# EAGLE library part 4VFX40FF1152 (library xilinx_spartan3_virtex4_and_5)
Xilinx FPGA
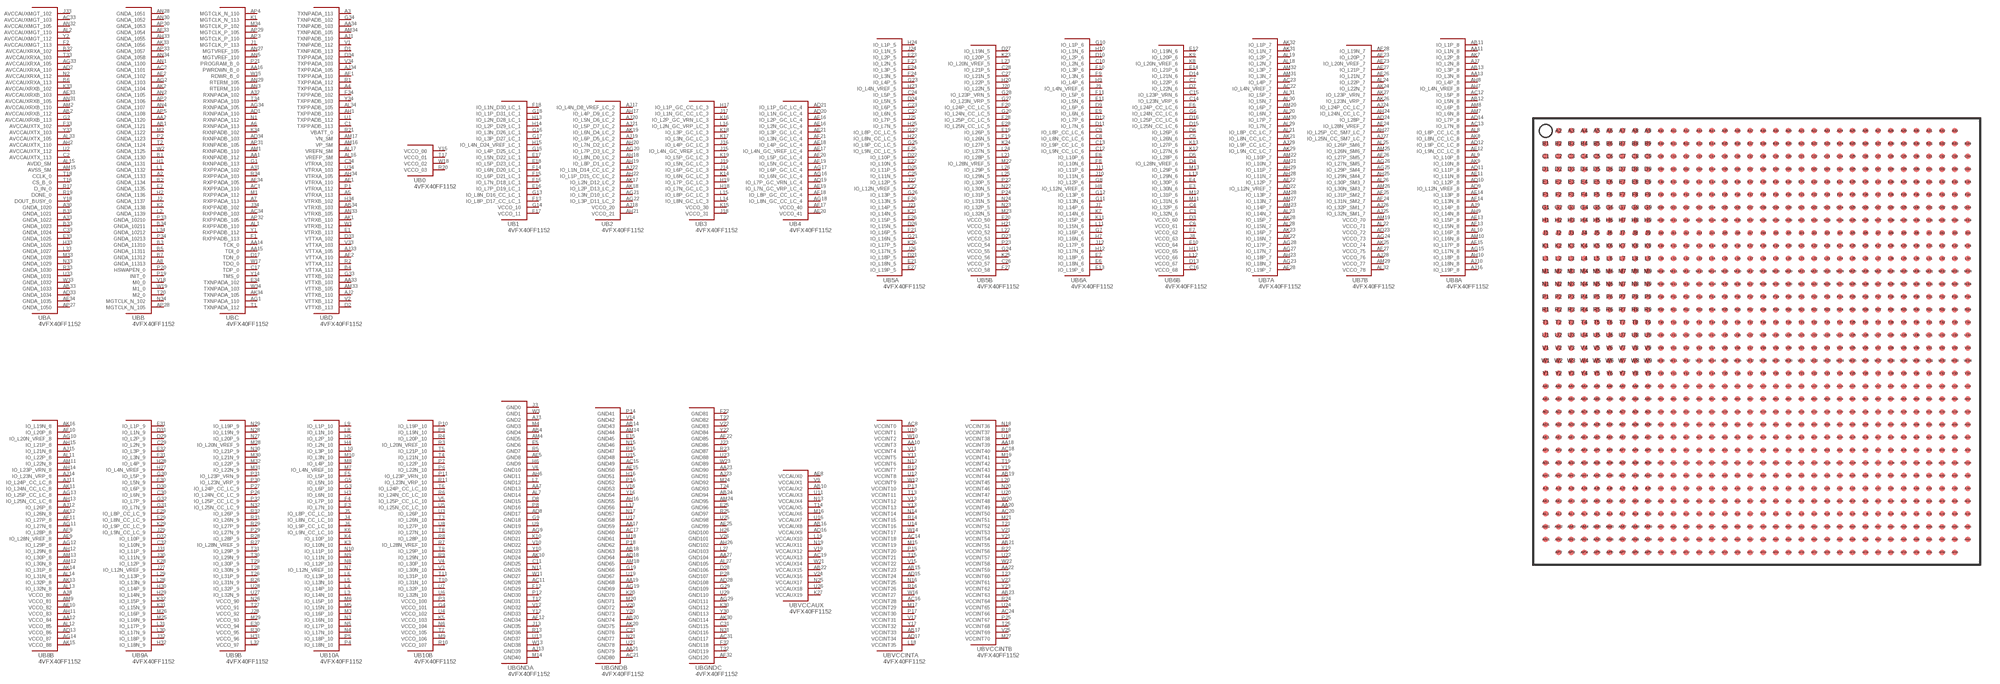
[diagram p65: symbol with the pads of FF1152; footprint FF1152]

Designator prefix U; gates BA=4VFX40FF1152_A BB=4VFX40FF1152_B BC=4VFX40FF1152_C BD=4VFX40FF1152_D B0=4VFX40FF1152_0 B1=4VFX40FF1152_1 B2=4VFX40FF1152_2 B3=4VFX40FF1152_3 B4=4VFX40FF1152_4 B5A=4VFX40FF1152_5A B5B=4VFX40FF1152_5B B6A=4VFX40FF1152_6A B6B=4VFX40FF1152_6B B7A=4VFX40FF1152_7A B7B=4VFX40FF1152_7B B8A=4VFX40FF1152_8A B8B=4VFX40FF1152_8B B9A=4VFX40FF1152_9A B9B=4VFX40FF1152_9B B10A=4VFX40FF1152_10A B10B=4VFX40FF1152_10B BGNDA=4VFX40FF1152_GNDA BGNDB=4VFX40FF1152_GNDB BGNDC=4VFX40FF1152_GNDC BVCCAUX=4VFX40FF1152_VCCAUX BVCCINTA=4VFX40FF1152_VCCINTA BVCCINTB=4VFX40FF1152_VCCINTB

## 4VFX40FF1152  [FF1152]
A2  BB:GNDA_1133
A3  BD:TXNPADA_113
A4  BD:TXPPADA_113
A5  BD:VTRXA_113
A6  BC:RXNPADA_113
A7  BC:RXPPADA_113
A8  BB:GNDA_11313
A30  BA:GNDA_1020
A31  BC:RXPPADA_102
A32  BC:RXNPADA_102
A33  BA:GNDA_1022
AA1  BC:RXNPADB_112
AA2  BB:GNDA_1120
AA7  BGNDA:GND13  pas
AA10  BVCCINTA:VCCINT3  pas
AA11  B8A:IO_L1N_8
AA12  B8B:VCCO_84  pas
AA13  B8A:IO_L3N_8
AA14  BC:TCK_0
AA15  BC:TDI_0
AA16  BC:PWRDWN_B_0
AA17  BGNDB:GND59  pas
AA18  BVCCINTB:VCCINT39  pas
AA19  BGNDB:GND68  pas
AA20  BVCCINTB:VCCINT49  pas
AA21  BGNDB:GND79  pas
AA22  BVCCINTB:VCCINT59  pas
AA23  BGNDC:GND90  pas
AA27  BGNDC:GND104  pas
AA33  BD:VTTXB_103
AA34  BD:TXNPADB_103
AB1  BB:GNDA_1121
AB2  BA:AVCCAUXRXB_112
AB4  BGNDA:GND4  pas
AB10  BVCCAUX:VCCAUX2  pas
AB11  B8A:IO_L1P_8
AB12  B8A:IO_L5N_8
AB13  B8A:IO_L3P_8
AB14  BGNDB:GND43  pas
AB15  BVCCINTA:VCCINT23  pas
AB16  BVCCAUX:VCCAUX8  pas
AB17  BVCCINTA:VCCINT33  pas
AB18  BGNDB:GND63  pas
AB19  BVCCINTB:VCCINT44  pas
AB20  BGNDB:GND74  pas
AB21  BVCCINTB:VCCINT55  pas
AB22  BVCCAUX:VCCAUX15  pas
AB23  BVCCINTB:VCCINT63  pas
AB24  BGNDC:GND94  pas
AB33  BA:GNDA_1033
AB34  BD:VTRXB_103
AC1  BC:RXPPADA_110
AC2  BB:GNDA_1101
AC8  BVCCINTA:VCCINT0  pas
AC11  BGNDA:GND28  pas
AC12  B8A:IO_L5P_8
AC13  B8A:IO_L7N_8
AC14  BVCCINTA:VCCINT18  pas
AC15  BGNDB:GND49  pas
AC16  BVCCINTA:VCCINT28  pas
AC17  BGNDB:GND60  pas
AC18  BVCCINTB:VCCINT40  pas
AC19  BVCCAUX:VCCAUX13  pas
AC20  BVCCINTB:VCCINT50  pas
AC21  BGNDB:GND80  pas
AC22  B7A:IO_L4N_VREF_7
AC23  B7A:IO_L4P_7
AC24  BVCCINTB:VCCINT66  pas
AC31  BGNDC:GND117  pas
AC33  BA:AVCCAUXMGT_103
AC34  BC:RXPPADB_103
AD1  BC:RXNPADA_110
AD2  BA:AVCCAUXRXA_110
AD8  BGNDA:GND17  pas
AD9  B8A:IO_L12N_VREF_8
AD10  B8A:IO_L12P_8
AD11  B8A:IO_L11P_8
AD12  B8A:IO_L9P_CC_LC_8
AD13  B8B:VCCO_86  pas
AD14  B8A:IO_L7P_8
AD15  BVCCINTA:VCCINT24  pas
AD16  BVCCAUX:VCCAUX9  pas
AD17  BVCCINTA:VCCINT34  pas
AD18  BGNDB:GND64  pas
AD19  B4:IO_L7P_GC_VRN_LC_4
AD20  B4:IO_L1N_GC_LC_4
AD21  B4:IO_L1P_GC_LC_4
AD22  B7A:IO_L12N_VREF_7
AD23  B7B:VCCO_72  pas
AD24  B7B:IO_L28P_7
AD28  BGNDC:GND108  pas
AD33  BA:GNDA_1034
AD34  BC:RXNPADB_103
AE1  BD:VTRXA_110
AE2  BB:GNDA_1102
AE5  BGNDA:GND8  pas
AE8  BVCCAUX:VCCAUX0  pas
AE9  B8B:IO_L28N_VREF_8
AE10  B8B:VCCO_82  pas
AE11  B8A:IO_L11N_8
AE12  B8A:IO_L9N_CC_LC_8
AE13  B8A:IO_L15P_8
AE14  B8A:IO_L13P_8
AE15  BGNDB:GND50  pas
AE16  B4:IO_L2N_GC_LC_4
AE17  B4:IO_L4N_GC_VREF_LC_4
AE18  B4:IO_L4P_GC_LC_4
AE19  B4:IO_L7N_GC_VRP_LC_4
AE20  B4:VCCO_41  pas
AE21  B4:IO_L3P_GC_LC_4
AE22  B7A:IO_L12P_7
AE23  B7B:IO_L20N_VREF_7
AE24  B7B:IO_L28N_VREF_7
AE25  BGNDC:GND99  pas
AE26  B7B:IO_L21N_7
AE27  B7B:IO_L21P_7
AE28  B7A:IO_L19P_7
AE33  BA:AVCCAUXRXB_103
AE34  BA:GNDA_1035
AF1  BD:TXPPADA_110
AF2  BD:VTTXA_110
AF9  B8B:IO_L28P_8
AF10  B8B:IO_L20P_8
AF11  B8B:IO_L27P_8
AF12  BGNDA:GND34  pas
AF13  B8A:IO_L15N_8
AF14  B8A:IO_L13N_8
AF15  B8A:IO_L17P_8
AF16  B4:IO_L2P_GC_LC_4
AF17  B4:VCCO_40  pas
AF18  B4:IO_L8P_GC_CC_LC_4
AF19  B4:IO_L5N_GC_LC_4
AF20  B4:IO_L5P_GC_LC_4
AF21  B4:IO_L3N_GC_LC_4
AF22  BGNDC:GND85  pas
AF23  B7B:IO_L20P_7
AF24  B7B:IO_L31N_SM2_7
AF25  B7B:IO_L31P_SM2_7
AF26  B7B:IO_L27P_SM5_7
AF27  B7B:VCCO_75  pas
AF28  B7B:IO_L19N_7
AF32  BGNDC:GND120  pas
AF33  BB:GNDA_1054
AF34  BC:RXPPADA_105
AG1  BC:TXNPADA_110
AG2  BB:GNDA_1103
AG9  BGNDA:GND20  pas
AG10  B8B:IO_L20N_VREF_8
AG11  B8B:IO_L27N_8
AG12  B8B:IO_L29P_8
AG13  B8B:IO_L25P_CC_LC_8
AG14  B8B:VCCO_87  pas
AG15  B8A:IO_L17N_8
AG16  B4:IO_L6N_GC_LC_4
AG17  B4:IO_L6P_GC_LC_4
AG18  B4:IO_L8N_GC_CC_LC_4
AG19  BGNDB:GND69  pas
AG20  B2:IO_L7P_D3_LC_2
AG21  B2:IO_L3N_D10_LC_2
AG22  B2:IO_L3P_D11_LC_2
AG23  B7A:IO_L18N_7
AG24  B7B:VCCO_73  pas
AG25  B7B:IO_L29P_SM4_7
AG26  B7B:IO_L27N_SM5_7
AG27  B7A:IO_L17N_7
AG28  B7A:IO_L17P_7
AG29  BGNDC:GND111  pas
AG33  BA:AVCCAUXRXA_105
AG34  BC:RXNPADA_105
AH1  BD:TXPPADB_110
AH2  BA:AVCCAUXTX_110
AH6  BGNDA:GND11  pas
AH7  B8A:IO_L4N_VREF_8
AH8  B8A:IO_L4P_8
AH9  B8A:IO_L14N_8
AH10  B8A:IO_L18P_8
AH11  B8B:VCCO_83  pas
AH12  B8B:IO_L29N_8
AH13  B8B:IO_L25N_CC_LC_8
AH14  B8B:IO_L23P_VRN_8
AH15  B8B:IO_L21P_8
AH16  BGNDB:GND55  pas
AH17  B2:IO_L4P_D9_LC_2
AH18  B2:IO_L8N_D0_LC_2
AH19  B2:IO_L8P_D1_LC_2
AH20  B2:IO_L7N_D2_LC_2
AH21  B2:VCCO_21  pas
AH22  B2:IO_L1P_D15_CC_LC_2
AH23  B7A:IO_L18P_7
AH24  B7B:IO_L24N_CC_LC_7
AH25  B7B:IO_L29N_SM4_7
AH26  BGNDC:GND102  pas
AH27  B7B:IO_L25P_CC_SM7_LC_7
AH28  B7A:IO_L11N_7
AH29  B7A:IO_L11P_7
AH33  BB:GNDA_1055
AH34  BD:VTRXA_105
AJ1  BD:TXNPADB_110
AJ2  BD:VTTXB_110
AJ3  BGNDA:GND2  pas
AJ7  B8A:IO_L2N_8
AJ8  B8B:VCCO_80  pas
AJ9  B8A:IO_L14P_8
AJ10  B8A:IO_L18N_8
AJ11  B8B:IO_L24P_CC_LC_8
AJ12  B8B:IO_L26P_8
AJ13  BGNDA:GND39  pas
AJ14  B8B:IO_L23N_VRP_8
AJ15  B8B:IO_L21N_8
AJ16  B8A:IO_L19P_8
AJ17  B2:IO_L4N_D8_VREF_LC_2
AJ18  B2:VCCO_20  pas
AJ19  B2:IO_L6P_D5_LC_2
AJ20  B2:IO_L5N_D6_LC_2
AJ21  B2:IO_L5P_D7_LC_2
AJ22  B2:IO_L1N_D14_CC_LC_2
AJ23  BGNDC:GND91  pas
AJ24  B7B:IO_L24P_CC_LC_7
AJ25  B7B:IO_L32N_SM1_7
AJ26  B7B:IO_L32P_SM1_7
AJ27  B7B:IO_L25N_CC_SM7_LC_7
AJ28  B7B:VCCO_76  pas
AJ29  B7A:IO_L9P_CC_LC_7
AJ33  BD:VTTXA_105
AJ34  BD:TXPPADA_105
AK1  BD:VTRXB_110
AK2  BB:GNDA_1104
AK7  B8A:IO_L2P_8
AK8  B8A:IO_L8N_CC_LC_8
AK9  B8A:IO_L10N_8
AK10  BGNDA:GND24  pas
AK11  B8B:IO_L24N_CC_LC_8
AK12  B8B:IO_L26N_8
AK13  B8B:IO_L32P_8
AK14  B8B:IO_L31P_8
AK15  B8B:VCCO_88  pas
AK16  B8B:IO_L19N_8
AK17  B2:IO_L2N_D12_LC_2
AK18  B2:IO_L2P_D13_LC_2
AK19  B2:IO_L6N_D4_LC_2
AK20  BGNDB:GND75  pas
AK21  B7A:IO_L8N_CC_LC_7
AK22  B7A:IO_L16N_7
AK23  B7A:IO_L16P_7
AK24  B7B:IO_L22N_7
AK25  B7B:VCCO_74  pas
AK26  B7B:IO_L23N_VRP_7
AK27  B7B:IO_L23P_VRN_7
AK28  B7A:IO_L15P_7
AK29  B7A:IO_L9N_CC_LC_7
AK30  BGNDC:GND114  pas
AK31  B7A:IO_L1N_7
AK32  B7A:IO_L1P_7
AK33  BB:GNDA_1056
AK34  BC:TXNPADA_105
AL1  BC:RXPPADB_110
AL2  BA:AVCCAUXMGT_110
AL7  BGNDA:GND14  pas
AL8  B8A:IO_L8P_CC_LC_8
AL9  B8A:IO_L10P_8
AL10  B8A:IO_L16P_8
AL11  B8B:IO_L22P_8
AL12  B8B:VCCO_85  pas
AL13  B8B:IO_L32N_8
AL14  B8B:IO_L31N_8
AL15  BA:AVDD_SM
AL16  BD:VREFP_SM
AL17  BD:VREFN_SM
AL18  B7A:IO_L2N_7
AL19  B7A:IO_L2P_7
AL20  B7A:IO_L6N_7
AL21  B7A:IO_L8P_CC_LC_7
AL22  B7B:VCCO_71  pas
AL23  B7A:IO_L14N_7
AL24  B7B:IO_L22P_7
AL25  B7B:IO_L26P_SM6_7
AL26  B7B:IO_L30P_SM3_7
AL27  BGNDC:GND105  pas
AL28  B7A:IO_L15N_7
AL29  B7A:IO_L7N_7
AL30  B7A:IO_L5N_7
AL31  B7A:IO_L5P_7
AL32  B7B:VCCO_78  pas
AL33  BA:AVCCAUXTX_105
AL34  BD:TXPPADB_105
AM1  BC:RXNPADB_110
AM2  BA:AVCCAUXRXB_110
AM4  BGNDA:GND5  pas
AM7  B8A:IO_L6N_8
AM8  B8A:IO_L6P_8
AM9  B8B:VCCO_81  pas
AM10  B8A:IO_L16N_8
AM11  B8B:IO_L22N_8
AM12  B8B:IO_L30N_8
AM13  B8B:IO_L30P_8
AM14  BGNDB:GND44  pas
AM15  BA:AVSS_SM
AM16  BD:VP_SM
AM17  BD:VN_SM
AM18  BGNDB:GND65  pas
AM19  B7B:VCCO_70  pas
AM20  B7A:IO_L6P_7
AM21  B7A:IO_L10N_7
AM22  B7A:IO_L10P_7
AM23  B7A:IO_L14P_7
AM24  BGNDC:GND95  pas
AM25  B7B:IO_L26N_SM6_7
AM26  B7B:IO_L30N_SM3_7
AM27  B7A:IO_L13N_7
AM28  B7A:IO_L13P_7
AM29  B7B:VCCO_77  pas
AM30  B7A:IO_L7P_7
AM31  B7A:IO_L3N_7
AM32  B7A:IO_L3P_7
AM33  BD:VTTXB_105
AM34  BD:TXNPADB_105
AN1  BB:GNDA_1100
AN2  BB:GNDA_1105
AN3  BC:RTERM_110
AN4  BB:GNDA_1107
AN5  BC:MGTVREF_110
AN27  BC:MGTVREF_105
AN28  BB:GNDA_1051
AN29  BC:RTERM_105
AN30  BB:GNDA_1052
AN31  BA:AVCCAUXRXB_105
AN32  BA:AVCCAUXMGT_105
AN33  BD:VTRXB_105
AN34  BB:GNDA_1058
AP2  BB:GNDA_1106
AP3  BC:MGTCLK_P_110
AP4  BC:MGTCLK_N_110
AP5  BB:GNDA_1108
AP27  BA:GNDA_1050
AP28  BB:MGTCLK_N_105
AP29  BC:MGTCLK_P_105
AP30  BB:GNDA_1053
AP31  BC:RXNPADB_105
AP32  BC:RXPPADB_105
AP33  BB:GNDA_1057
B1  BB:GNDA_1130
B2  BB:GNDA_1134
B3  BB:GNDA_11310
B4  BD:VTTXA_113
B5  BB:GNDA_11311
B6  BA:AVCCAUXRXA_113
B7  BB:GNDA_11312
B31  BA:GNDA_1021
B32  BA:AVCCAUXRXA_102
B33  BA:GNDA_1023
B34  BB:GNDA_10211
C1  BD:TXPPADB_113
C2  BA:AVCCAUXTX_113
C3  B6B:IO_L32N_6
C4  B6B:IO_L32P_6
C5  B6B:IO_L26N_6
C6  B6B:VCCO_61  pas
C7  B6B:IO_L22P_6
C8  B6A:IO_L8N_CC_LC_6
C9  B6A:IO_L8P_CC_LC_6
C10  B6A:IO_L2N_6
C11  BGNDA:GND25  pas
C12  B6A:IO_L9N_CC_LC_6
C13  B6A:IO_L9P_CC_LC_6
C14  B6B:IO_L23N_VRP_6
C15  B6B:IO_L23P_VRN_6
C16  B6B:VCCO_68  pas
C17  BC:TDP_0
C21  BGNDB:GND76  pas
C22  B5A:IO_L6N_5
C23  B5A:IO_L6P_5
C24  B5A:IO_L5P_5
C25  B5A:IO_L11N_5
C26  B5B:VCCO_57  pas
C27  B5B:IO_L21N_5
C28  B5B:IO_L21P_5
C29  B9A:IO_L2N_9
C30  B9A:IO_L6N_9
C31  BGNDC:GND115  pas
C32  B9A:IO_L10N_9
C33  BA:GNDA_1024
C34  BD:VTRXA_102
D1  BD:TXNPADB_113
D2  BD:VTTXB_113
D3  B6B:VCCO_60  pas
D4  B6B:IO_L28N_VREF_6
D5  B6B:IO_L28P_6
D6  B6B:IO_L26P_6
D7  B6B:IO_L22N_6
D8  BGNDA:GND15  pas
D9  B6A:IO_L6P_6
D10  B6A:IO_L2P_6
D11  B6A:IO_L7N_6
D12  B6A:IO_L7P_6
D13  B6B:VCCO_67  pas
D14  B6B:IO_L21N_6
D15  B6B:IO_L25N_CC_LC_6
D16  B6B:IO_L25P_CC_LC_6
D17  BC:TDN_0
D21  B5A:IO_L18P_5
D22  B5A:IO_L10P_5
D23  B5B:VCCO_53  pas
D24  B5A:IO_L5N_5
D25  B5A:IO_L11P_5
D26  B5A:IO_L15N_5
D27  B5B:IO_L19N_5
D28  BGNDC:GND106  pas
D29  B9A:IO_L2P_9
D30  B9A:IO_L6P_9
D31  B9A:IO_L1N_9
D32  B9A:IO_L10P_9
D33  BD:VTTXA_102
D34  BD:TXPPADA_102
E1  BD:VTRXB_113
E2  BB:GNDA_1135
E3  B6B:IO_L30N_6
E4  B6B:IO_L30P_6
E5  BGNDA:GND6  pas
E6  B6A:IO_L18N_6
E7  B6A:IO_L18P_6
E8  B6A:IO_L10P_6
E9  B6A:IO_L6N_6
E10  B6B:VCCO_64  pas
E11  B6A:IO_L5N_6
E12  B6B:IO_L19N_6
E13  B6A:IO_L19P_6
E14  B6B:IO_L21P_6
E15  BGNDB:GND45  pas
E16  B1:IO_L7P_D19_LC_1
E17  B1:IO_L5N_D22_LC_1
E18  B1:IO_L5P_D23_LC_1
E19  B5B:IO_L26P_5
E20  B5B:VCCO_50  pas
E21  B5A:IO_L18N_5
E22  B5A:IO_L10N_5
E23  B5A:IO_L2P_5
E24  B5A:IO_L3P_5
E25  BGNDC:GND96  pas
E26  B5A:IO_L15P_5
E27  B5A:IO_L19P_5
E28  B5B:IO_L25N_CC_LC_5
E29  B9A:IO_L8N_CC_LC_9
E30  B9B:VCCO_94  pas
E31  B9A:IO_L1P_9
E32  B9A:IO_L3P_9
E33  BA:GNDA_1025
E34  BC:TXNPADA_102
F1  BC:RXPPADB_113
F2  BA:AVCCAUXMGT_113
F3  B10A:IO_L7N_10
F4  B10A:IO_L7P_10
F5  B10A:IO_L5P_10
F6  B6B:IO_L24P_CC_LC_6
F7  B6B:VCCO_62  pas
F8  B6A:IO_L10N_6
F9  B6A:IO_L3N_6
F10  B6A:IO_L3P_6
F11  B6A:IO_L5P_6
F12  BGNDA:GND29  pas
F13  B1:IO_L8P_D17_CC_LC_1
F14  B1:IO_L6N_D20_LC_1
F15  B1:IO_L6P_D21_LC_1
F16  B1:IO_L7N_D18_LC_1
F17  B1:VCCO_11  pas
F18  B1:IO_L1N_D30_LC_1
F19  B5B:IO_L26N_5
F20  B5B:IO_L24P_CC_LC_5
F21  B5A:IO_L16P_5
F22  BGNDC:GND81  pas
F23  B5A:IO_L2N_5
F24  B5A:IO_L3N_5
F25  B5A:IO_L9N_CC_LC_5
F26  B5A:IO_L13N_5
F27  B5B:VCCO_58  pas
F28  B5B:IO_L25P_CC_LC_5
F29  B9A:IO_L8P_CC_LC_9
F30  B9A:IO_L5N_9
F31  B9A:IO_L3N_9
F32  BGNDC:GND118  pas
F33  BA:AVCCAUXTX_102
F34  BD:TXPPADB_102
G1  BC:RXNPADB_113
G2  BA:AVCCAUXRXB_113
G3  B10A:IO_L6P_10
G4  B10B:VCCO_101  pas
G5  B10A:IO_L5N_10
G6  B6B:IO_L24N_CC_LC_6
G7  B6A:IO_L16P_6
G8  B6A:IO_L12P_6
G9  BGNDA:GND18  pas
G10  B6A:IO_L1P_6
G11  B6A:IO_L13N_6
G12  B6A:IO_L13P_6
G13  B1:IO_L8N_D16_CC_LC_1
G14  B1:VCCO_10  pas
G15  B1:IO_L4P_D25_LC_1
G16  B1:IO_L3N_D26_LC_1
G17  B1:IO_L3P_D27_LC_1
G18  B1:IO_L1P_D31_LC_1
G19  BGNDB:GND66  pas
G20  B5B:IO_L24N_CC_LC_5
G21  B5A:IO_L16N_5
G22  B5A:IO_L8P_CC_LC_5
G23  B5A:IO_L4P_5
G24  B5B:VCCO_55  pas
G25  B5A:IO_L9P_CC_LC_5
G26  B5A:IO_L13P_5
G27  B5B:IO_L23N_VRP_5
G28  B5B:IO_L23P_VRN_5
G29  BGNDC:GND109  pas
G30  B9A:IO_L5P_9
G31  B9A:IO_L7N_9
G32  B9A:IO_L7P_9
G33  BD:VTTXB_102
G34  BD:TXNPADB_102
H1  BB:GNDA_1131
H2  BB:GNDA_1136
H3  B10A:IO_L6N_10
H4  B10A:IO_L2N_10
H5  B10A:IO_L2P_10
H6  BGNDA:GND9  pas
H7  B6A:IO_L16N_6
H8  B6A:IO_L12N_VREF_6
H9  B6A:IO_L4P_6
H10  B6A:IO_L1N_6
H11  B6B:VCCO_65  pas
H12  B6A:IO_L17N_6
H13  B1:IO_L2N_D28_LC_1
H14  B1:IO_L2P_D29_LC_1
H15  B1:IO_L4N_D24_VREF_LC_1
H16  BGNDB:GND51  pas
H17  B3:IO_L1P_GC_CC_LC_3
H18  B3:IO_L7N_GC_LC_3
H19  B3:IO_L7P_GC_LC_3
H20  B5B:IO_L22P_5
H21  B5B:VCCO_51  pas
H22  B5A:IO_L8N_CC_LC_5
H23  B5A:IO_L4N_VREF_5
H24  B5A:IO_L1P_5
H25  B5A:IO_L7N_5
H26  BGNDC:GND100  pas
H27  B9A:IO_L4N_VREF_9
H28  B9A:IO_L4P_9
H29  B9A:IO_L14N_9
H30  B9A:IO_L14P_9
H31  B9B:VCCO_96  pas
H32  B9A:IO_L18N_9
H33  BA:GNDA_1026
H34  BD:VTRXB_102
J1  BC:MGTCLK_P_113
J2  BB:GNDA_1137
J3  BGNDA:GND0  pas
J4  B10A:IO_L8N_CC_LC_10
J5  B10A:IO_L8P_CC_LC_10
J6  B10A:IO_L9P_CC_LC_10
J7  B6A:IO_L14P_6
J8  B6B:VCCO_63  pas
J9  B6A:IO_L4N_VREF_6
J10  B6A:IO_L11N_6
J11  B6A:IO_L11P_6
J12  B6A:IO_L17P_6
J13  BGNDA:GND35  pas
J14  B3:IO_L6P_GC_LC_3
J15  B3:IO_L4N_GC_VREF_LC_3
J16  B3:IO_L4P_GC_LC_3
J17  B3:IO_L1N_GC_CC_LC_3
J18  B3:VCCO_31  pas
J19  B3:IO_L5N_GC_LC_3
J20  B5B:IO_L22N_5
J21  B5A:IO_L14P_5
J22  B5A:IO_L12P_5
J23  BGNDC:GND86  pas
J24  B5A:IO_L1N_5
J25  B5A:IO_L7P_5
J26  B5A:IO_L17N_5
J27  B9A:IO_L12N_VREF_9
J28  B9B:VCCO_92  pas
J29  B9A:IO_L9N_CC_LC_9
J30  B9A:IO_L11N_9
J31  B9A:IO_L11P_9
J32  B9A:IO_L18P_9
J33  BA:AVCCAUXMGT_102
J34  BC:RXPPADB_102
K1  BC:MGTCLK_N_113
K2  BB:GNDA_1138
K3  B10A:IO_L10N_10
K4  B10A:IO_L10P_10
K5  B10B:VCCO_103  pas
K6  B10A:IO_L9N_CC_LC_10
K7  B6A:IO_L14N_6
K8  B6B:IO_L20N_VREF_6
K9  B6B:IO_L20P_6
K10  BGNDA:GND21  pas
K11  B6A:IO_L15P_6
K12  B6B:IO_L27N_6
K13  B6B:IO_L27P_6
K14  B3:IO_L6N_GC_LC_3
K15  B3:VCCO_30  pas
K16  B3:IO_L2P_GC_VRN_LC_3
K17  B3:IO_L3N_GC_LC_3
K18  B3:IO_L3P_GC_LC_3
K19  B3:IO_L5P_GC_LC_3
K20  BGNDB:GND70  pas
K21  B5A:IO_L14N_5
K22  B5A:IO_L12N_VREF_5
K23  B5B:IO_L20P_5
K24  B5B:IO_L27P_5
K25  B5B:VCCO_56  pas
K26  B5A:IO_L17P_5
K27  BVCCAUX:VCCAUX19  pas
K28  B9A:IO_L12P_9
K29  B9A:IO_L9P_CC_LC_9
K30  BGNDC:GND112  pas
K31  B9A:IO_L15N_9
K32  B9A:IO_L15P_9
K33  BA:AVCCAUXRXB_102
K34  BC:RXNPADB_102
L1  BB:GNDA_1132
L2  BB:GNDA_1139
L3  B10A:IO_L14N_10
L4  B10A:IO_L14P_10
L5  B10A:IO_L13N_10
L6  B10A:IO_L13P_10
L7  BGNDA:GND12  pas
L8  B10A:IO_L1N_10
L9  B10A:IO_L1P_10
L10  B10A:IO_L3P_10
L11  B6A:IO_L15N_6
L12  B6B:VCCO_66  pas
L13  B6B:IO_L29N_6
L14  B3:IO_L8N_GC_LC_3
L15  B3:IO_L8P_GC_LC_3
L16  B3:IO_L2N_GC_VRP_LC_3
L17  BGNDB:GND56  pas
L18  BVCCINTA:VCCINT35  pas
L19  BVCCAUX:VCCAUX10  pas
L20  BVCCINTB:VCCINT45  pas
L21  B5B:IO_L28P_5
L22  B5B:VCCO_52  pas
L23  B5B:IO_L20N_VREF_5
L24  B5B:IO_L27N_5
L25  B5B:IO_L29N_5
L26  B5B:IO_L29P_5
L27  BGNDC:GND103  pas
L28  B9A:IO_L13N_9
L29  B9A:IO_L13P_9
L30  B9A:IO_L17N_9
L31  B9A:IO_L17P_9
L32  B9B:VCCO_97  pas
L33  BA:GNDA_1027
L34  BB:GNDA_10212
M1  BC:RXPPADA_112
M2  BB:GNDA_1122
M3  B10A:IO_L16P_10
M4  BGNDA:GND3  pas
M5  B10A:IO_L15N_10
M6  B10A:IO_L15P_10
M7  B10A:IO_L4N_VREF_10
M8  B10A:IO_L4P_10
M9  B10B:VCCO_106  pas
M10  B10A:IO_L3N_10
M11  B6B:IO_L31N_6
M12  B6B:IO_L31P_6
M13  B6B:IO_L29P_6
M14  BGNDA:GND40  pas
M15  BVCCINTA:VCCINT19  pas
M16  BVCCAUX:VCCAUX6  pas
M17  BVCCINTA:VCCINT29  pas
M18  BGNDB:GND61  pas
M19  BVCCINTB:VCCINT41  pas
M20  BGNDB:GND71  pas
M21  BVCCINTB:VCCINT51  pas
M22  B5B:IO_L28N_VREF_5
M23  B5B:IO_L32N_5
M24  BGNDC:GND92  pas
M25  B9A:IO_L16N_9
M26  B9A:IO_L16P_9
M27  BVCCINTB:VCCINT70  pas
M28  B9B:IO_L20N_VREF_9
M29  B9B:VCCO_93  pas
M30  B9B:IO_L21N_9
M31  B9B:IO_L22N_9
M32  B9B:IO_L22P_9
M33  BA:GNDA_1028
M34  BC:MGTCLK_P_102
N1  BC:RXNPADA_112
N2  BA:AVCCAUXRXA_112
N3  B10A:IO_L16N_10
N4  B10A:IO_L17N_10
N5  B10A:IO_L17P_10
N6  B10B:VCCO_104  pas
N7  B10A:IO_L12N_VREF_10
N8  B10A:IO_L12P_10
N9  B10A:IO_L11N_10
N10  B10A:IO_L11P_10
N11  BGNDA:GND26  pas
N12  BVCCINTA:VCCINT6  pas
N13  BVCCAUX:VCCAUX4  pas
N14  BVCCINTA:VCCINT14  pas
N15  BGNDB:GND46  pas
N16  BVCCINTA:VCCINT25  pas
N17  BGNDB:GND57  pas
N18  BVCCINTB:VCCINT36  pas
N19  BVCCAUX:VCCAUX11  pas
N20  BVCCINTB:VCCINT46  pas
N21  BGNDB:GND77  pas
N22  B5B:IO_L30N_5
N23  B5B:IO_L32P_5
N24  B5B:IO_L31N_5
N25  BVCCAUX:VCCAUX17  pas
N26  B9B:VCCO_90  pas
N27  B9B:IO_L20P_9
N28  B9B:IO_L19N_9
N29  B9B:IO_L19P_9
N30  B9B:IO_L21P_9
N31  BGNDC:GND116  pas
N32  B9B:IO_L25N_CC_LC_9
N33  BA:GNDA_1029
N34  BB:MGTCLK_N_102
P1  BD:VTRXA_112
P2  BB:GNDA_1123
P3  B10B:VCCO_100  pas
P4  B10A:IO_L18N_10
P5  B10A:IO_L18P_10
P6  B10B:IO_L22N_10
P7  B10B:IO_L22P_10
P8  BGNDA:GND16  pas
P9  B10B:IO_L19N_10
P10  B10B:IO_L19P_10
P11  B10B:IO_L23P_VRN_10
P12  BGNDA:GND30  pas
P13  BVCCINTA:VCCINT10  pas
P14  BGNDB:GND41  pas
P15  BVCCINTA:VCCINT20  pas
P16  BGNDB:GND52  pas
P17  BVCCINTA:VCCINT30  pas
P18  BGNDB:GND62  pas
P19  BB:INIT_0
P20  BB:HSWAPEN_0
P21  BC:PROGRAM_B_0
P22  B5B:IO_L30P_5
P23  B5B:VCCO_54  pas
P24  B5B:IO_L31P_5
P25  BVCCINTB:VCCINT67  pas
P26  B9B:IO_L24N_CC_LC_9
P27  B9B:IO_L24P_CC_LC_9
P28  BGNDC:GND107  pas
P29  B9B:IO_L27N_9
P30  B9B:IO_L23N_VRP_9
P31  B9B:IO_L23P_VRN_9
P32  B9B:IO_L25P_CC_LC_9
P33  BB:GNDA_10210
P34  BB:GNDA_10213
R1  BD:TXPPADA_112
R2  BD:VTTXA_112
R3  B10B:IO_L20N_VREF_10
R4  B10B:IO_L20P_10
R5  BGNDA:GND7  pas
R6  B10B:IO_L24N_CC_LC_10
R7  B10B:IO_L28N_VREF_10
R8  B10B:IO_L28P_10
R9  B10B:IO_L29N_10
R10  B10B:VCCO_107  pas
R11  B10B:IO_L23N_VRP_10
R12  BVCCINTA:VCCINT7  pas
R13  BGNDA:GND36  pas
R14  BVCCINTA:VCCINT15  pas
R15  BGNDB:GND47  pas
R16  BVCCINTA:VCCINT26  pas
R17  BA:D_IN_0
R18  BVCCINTB:VCCINT37  pas
R19  BA:DONE_0
R20  B0:VCCO_03  pas
R21  BD:VBATT_0
R22  BVCCINTB:VCCINT56  pas
R23  BGNDC:GND87  pas
R24  BVCCINTB:VCCINT64  pas
R25  BGNDC:GND97  pas
R26  B9B:IO_L31N_9
R27  B9B:IO_L28N_VREF_9
R28  B9B:IO_L28P_9
R29  B9B:IO_L27P_9
R30  B9B:VCCO_95  pas
R31  B9B:IO_L26N_9
R32  B9B:IO_L26P_9
R33  BA:GNDA_1030
R34  BC:RXPPADA_103
T1  BC:TXNPADA_112
T2  BB:GNDA_1124
T3  B10B:IO_L26N_10
T4  B10B:IO_L21N_10
T5  B10B:IO_L21P_10
T6  B10B:IO_L24P_CC_LC_10
T7  B10B:VCCO_105  pas
T8  B10B:IO_L27N_10
T9  B10B:IO_L29P_10
T10  B10B:IO_L31N_10
T11  B10B:IO_L31P_10
T12  BGNDA:GND31  pas
T13  BVCCINTA:VCCINT11  pas
T14  BVCCAUX:VCCAUX5  pas
T15  BVCCINTA:VCCINT21  pas
T16  BA:CS_B_0
T17  B0:VCCO_01  pas
T18  BA:CCLK_0
T19  BVCCINTB:VCCINT42  pas
T20  BB:M2_0
T21  BVCCINTB:VCCINT52  pas
T22  BGNDC:GND82  pas
T23  BVCCINTB:VCCINT60  pas
T24  BGNDC:GND93  pas
T25  BVCCINTB:VCCINT68  pas
T26  B9B:IO_L31P_9
T27  B9B:VCCO_91  pas
T28  B9B:IO_L30N_9
T29  B9B:IO_L30P_9
T30  B9B:IO_L29N_9
T31  B9B:IO_L29P_9
T32  BGNDC:GND119  pas
T33  BA:AVCCAUXRXA_103
T34  BC:RXNPADA_103
U1  BD:TXPPADB_112
U2  BA:AVCCAUXTX_112
U3  B10B:IO_L26P_10
U4  B10B:VCCO_102  pas
U5  B10B:IO_L25N_CC_LC_10
U6  B10B:IO_L32N_10
U7  B10B:IO_L32P_10
U8  B10B:IO_L27P_10
U9  BGNDA:GND19  pas
U10  BVCCINTA:VCCINT1  pas
U11  BVCCAUX:VCCAUX3  pas
U12  BVCCINTA:VCCINT8  pas
U13  BGNDA:GND37  pas
U14  BVCCINTA:VCCINT16  pas
U15  BGNDB:GND48  pas
U16  BVCCAUX:VCCAUX7  pas
U17  BGNDB:GND58  pas
U18  BVCCINTB:VCCINT38  pas
U19  BGNDB:GND67  pas
U20  BVCCINTB:VCCINT47  pas
U21  BGNDB:GND78  pas
U22  BVCCINTB:VCCINT57  pas
U23  BGNDC:GND88  pas
U24  BVCCINTB:VCCINT65  pas
U25  BGNDC:GND98  pas
U26  BVCCAUX:VCCAUX18  pas
U27  B9B:IO_L32N_9
U28  B9B:IO_L32P_9
U29  BGNDC:GND110  pas
U33  BA:GNDA_1031
U34  BD:VTRXA_103
V1  BD:TXNPADB_112
V2  BD:VTTXB_112
V3  B10B:IO_L30N_10
V4  B10B:IO_L30P_10
V5  B10B:IO_L25P_CC_LC_10
V6  BGNDA:GND10  pas
V9  BVCCAUX:VCCAUX1  pas
V10  BGNDA:GND22  pas
V11  BVCCINTA:VCCINT4  pas
V12  BGNDA:GND32  pas
V13  BVCCINTA:VCCINT12  pas
V14  BGNDB:GND42  pas
V15  BVCCINTA:VCCINT22  pas
V16  BGNDB:GND53  pas
V17  BVCCINTA:VCCINT31  pas
V18  BB:M0_0
V19  BVCCAUX:VCCAUX12  pas
V20  BGNDB:GND72  pas
V21  BVCCINTB:VCCINT53  pas
V22  BGNDC:GND83  pas
V23  BVCCINTB:VCCINT61  pas
V24  BVCCAUX:VCCAUX16  pas
V25  BVCCINTB:VCCINT69  pas
V26  BGNDC:GND101  pas
V33  BD:VTTXA_103
V34  BD:TXPPADA_103
W1  BD:VTRXB_112
W2  BB:GNDA_1125
W3  BGNDA:GND1  pas
W10  BVCCINTA:VCCINT2  pas
W11  BGNDA:GND27  pas
W12  BVCCINTA:VCCINT9  pas
W13  BGNDA:GND38  pas
W14  BVCCINTA:VCCINT17  pas
W15  BC:RDWR_B_0
W16  BVCCINTA:VCCINT27  pas
W17  BC:TDO_0
W18  B0:VCCO_02  pas
W19  BB:M1_0
W20  BVCCINTB:VCCINT48  pas
W21  BVCCAUX:VCCAUX14  pas
W22  BVCCINTB:VCCINT58  pas
W23  BGNDC:GND89  pas
W33  BA:GNDA_1032
W34  BC:TXNPADA_103
Y1  BC:RXPPADB_112
Y2  BA:AVCCAUXMGT_112
Y10  BGNDA:GND23  pas
Y11  BVCCINTA:VCCINT5  pas
Y12  BGNDA:GND33  pas
Y13  BVCCINTA:VCCINT13  pas
Y14  BC:TMS_0
Y15  B0:VCCO_00  pas
Y16  BGNDB:GND54  pas
Y17  BVCCINTA:VCCINT32  pas
Y18  BA:DOUT_BUSY_0
Y19  BVCCINTB:VCCINT43  pas
Y20  BGNDB:GND73  pas
Y21  BVCCINTB:VCCINT54  pas
Y22  BGNDC:GND84  pas
Y23  BVCCINTB:VCCINT62  pas
Y30  BGNDC:GND113  pas
Y33  BA:AVCCAUXTX_103
Y34  BD:TXPPADB_103

## Footprint FF1152 (pad centres in mm)
smd 0.45 x 0.45: A2 -15.5,16.5; A3 -14.5,16.5; A4 -13.5,16.5; A5 -12.5,16.5; A6 -11.5,16.5; A7 -10.5,16.5; A8 -9.5,16.5; A9 -8.5,16.5; A10 -7.5,16.5; A11 -6.5,16.5; A12 -5.5,16.5; A13 -4.5,16.5; A14 -3.5,16.5; A15 -2.5,16.5; A16 -1.5,16.5; A17 -0.5,16.5; A18 0.5,16.5; A19 1.5,16.5; A20 2.5,16.5; A21 3.5,16.5; A22 4.5,16.5; A23 5.5,16.5; A24 6.5,16.5; A25 7.5,16.5; A26 8.5,16.5; A27 9.5,16.5; A28 10.5,16.5; A29 11.5,16.5; A30 12.5,16.5; A31 13.5,16.5; A32 14.5,16.5; A33 15.5,16.5; AA1 -16.5,-3.5; AA2 -15.5,-3.5; AA3 -14.5,-3.5; AA4 -13.5,-3.5; AA5 -12.5,-3.5; AA6 -11.5,-3.5; AA7 -10.5,-3.5; AA8 -9.5,-3.5; AA9 -8.5,-3.5; AA10 -7.5,-3.5; AA11 -6.5,-3.5; AA12 -5.5,-3.5; AA13 -4.5,-3.5; AA14 -3.5,-3.5; AA15 -2.5,-3.5; AA16 -1.5,-3.5; AA17 -0.5,-3.5; AA18 0.5,-3.5; AA19 1.5,-3.5; AA20 2.5,-3.5; AA21 3.5,-3.5; AA22 4.5,-3.5; AA23 5.5,-3.5; AA24 6.5,-3.5; AA25 7.5,-3.5; AA26 8.5,-3.5; AA27 9.5,-3.5; AA28 10.5,-3.5; AA29 11.5,-3.5; AA30 12.5,-3.5; AA31 13.5,-3.5; AA32 14.5,-3.5; AA33 15.5,-3.5; AA34 16.5,-3.5; AB1 -16.5,-4.5; AB2 -15.5,-4.5; AB3 -14.5,-4.5; AB4 -13.5,-4.5; AB5 -12.5,-4.5; AB6 -11.5,-4.5; AB7 -10.5,-4.5; AB8 -9.5,-4.5; AB9 -8.5,-4.5; AB10 -7.5,-4.5; AB11 -6.5,-4.5; AB12 -5.5,-4.5; AB13 -4.5,-4.5; AB14 -3.5,-4.5; AB15 -2.5,-4.5; AB16 -1.5,-4.5; AB17 -0.5,-4.5; AB18 0.5,-4.5; AB19 1.5,-4.5; AB20 2.5,-4.5; AB21 3.5,-4.5; AB22 4.5,-4.5; AB23 5.5,-4.5; AB24 6.5,-4.5; AB25 7.5,-4.5; AB26 8.5,-4.5; AB27 9.5,-4.5; AB28 10.5,-4.5; AB29 11.5,-4.5; AB30 12.5,-4.5; AB31 13.5,-4.5; AB32 14.5,-4.5; AB33 15.5,-4.5; AB34 16.5,-4.5; AC1 -16.5,-5.5; AC2 -15.5,-5.5; AC3 -14.5,-5.5; AC4 -13.5,-5.5; AC5 -12.5,-5.5; AC6 -11.5,-5.5; AC7 -10.5,-5.5; AC8 -9.5,-5.5; AC9 -8.5,-5.5; AC10 -7.5,-5.5; AC11 -6.5,-5.5; AC12 -5.5,-5.5; AC13 -4.5,-5.5; AC14 -3.5,-5.5; AC15 -2.5,-5.5; AC16 -1.5,-5.5; AC17 -0.5,-5.5; AC18 0.5,-5.5; AC19 1.5,-5.5; AC20 2.5,-5.5; AC21 3.5,-5.5; AC22 4.5,-5.5; AC23 5.5,-5.5; AC24 6.5,-5.5; AC25 7.5,-5.5; AC26 8.5,-5.5; AC27 9.5,-5.5; AC28 10.5,-5.5; AC29 11.5,-5.5; AC30 12.5,-5.5; AC31 13.5,-5.5; AC32 14.5,-5.5; AC33 15.5,-5.5; AC34 16.5,-5.5; AD1 -16.5,-6.5; AD2 -15.5,-6.5; AD3 -14.5,-6.5; AD4 -13.5,-6.5; AD5 -12.5,-6.5; AD6 -11.5,-6.5; AD7 -10.5,-6.5; AD8 -9.5,-6.5; AD9 -8.5,-6.5; AD10 -7.5,-6.5; AD11 -6.5,-6.5; AD12 -5.5,-6.5; AD13 -4.5,-6.5; AD14 -3.5,-6.5; AD15 -2.5,-6.5; AD16 -1.5,-6.5; AD17 -0.5,-6.5; AD18 0.5,-6.5; AD19 1.5,-6.5; AD20 2.5,-6.5; AD21 3.5,-6.5; AD22 4.5,-6.5; AD23 5.5,-6.5; AD24 6.5,-6.5; AD25 7.5,-6.5; AD26 8.5,-6.5; AD27 9.5,-6.5; AD28 10.5,-6.5; AD29 11.5,-6.5; AD30 12.5,-6.5; AD31 13.5,-6.5; AD32 14.5,-6.5; AD33 15.5,-6.5; AD34 16.5,-6.5; AE1 -16.5,-7.5; AE2 -15.5,-7.5; AE3 -14.5,-7.5; AE4 -13.5,-7.5; AE5 -12.5,-7.5; AE6 -11.5,-7.5; AE7 -10.5,-7.5; AE8 -9.5,-7.5; AE9 -8.5,-7.5; AE10 -7.5,-7.5; AE11 -6.5,-7.5; AE12 -5.5,-7.5; AE13 -4.5,-7.5; AE14 -3.5,-7.5; AE15 -2.5,-7.5; AE16 -1.5,-7.5; AE17 -0.5,-7.5; AE18 0.5,-7.5; AE19 1.5,-7.5; AE20 2.5,-7.5; AE21 3.5,-7.5; AE22 4.5,-7.5; AE23 5.5,-7.5; AE24 6.5,-7.5; AE25 7.5,-7.5; AE26 8.5,-7.5; AE27 9.5,-7.5; AE28 10.5,-7.5; AE29 11.5,-7.5; AE30 12.5,-7.5; AE31 13.5,-7.5; AE32 14.5,-7.5; AE33 15.5,-7.5; AE34 16.5,-7.5; AF1 -16.5,-8.5; AF2 -15.5,-8.5; AF3 -14.5,-8.5; AF4 -13.5,-8.5; AF5 -12.5,-8.5; AF6 -11.5,-8.5; AF7 -10.5,-8.5; AF8 -9.5,-8.5; AF9 -8.5,-8.5; AF10 -7.5,-8.5; AF11 -6.5,-8.5; AF12 -5.5,-8.5; AF13 -4.5,-8.5; AF14 -3.5,-8.5; AF15 -2.5,-8.5; AF16 -1.5,-8.5; AF17 -0.5,-8.5; AF18 0.5,-8.5; AF19 1.5,-8.5; AF20 2.5,-8.5; AF21 3.5,-8.5; AF22 4.5,-8.5; AF23 5.5,-8.5; AF24 6.5,-8.5; AF25 7.5,-8.5; AF26 8.5,-8.5; AF27 9.5,-8.5; AF28 10.5,-8.5; AF29 11.5,-8.5; AF30 12.5,-8.5; AF31 13.5,-8.5; AF32 14.5,-8.5; AF33 15.5,-8.5; AF34 16.5,-8.5; AG1 -16.5,-9.5; AG2 -15.5,-9.5; AG3 -14.5,-9.5; AG4 -13.5,-9.5; AG5 -12.5,-9.5; AG6 -11.5,-9.5; AG7 -10.5,-9.5; AG8 -9.5,-9.5; AG9 -8.5,-9.5; AG10 -7.5,-9.5; AG11 -6.5,-9.5; AG12 -5.5,-9.5; AG13 -4.5,-9.5; AG14 -3.5,-9.5; AG15 -2.5,-9.5; AG16 -1.5,-9.5; AG17 -0.5,-9.5; AG18 0.5,-9.5; AG19 1.5,-9.5; AG20 2.5,-9.5; AG21 3.5,-9.5; AG22 4.5,-9.5; AG23 5.5,-9.5; AG24 6.5,-9.5; AG25 7.5,-9.5; AG26 8.5,-9.5; AG27 9.5,-9.5; AG28 10.5,-9.5; AG29 11.5,-9.5; AG30 12.5,-9.5; AG31 13.5,-9.5; AG32 14.5,-9.5; AG33 15.5,-9.5; AG34 16.5,-9.5; AH1 -16.5,-10.5; AH2 -15.5,-10.5; AH3 -14.5,-10.5; AH4 -13.5,-10.5; AH5 -12.5,-10.5; AH6 -11.5,-10.5; AH7 -10.5,-10.5; AH8 -9.5,-10.5; AH9 -8.5,-10.5; AH10 -7.5,-10.5; AH11 -6.5,-10.5; AH12 -5.5,-10.5; AH13 -4.5,-10.5; AH14 -3.5,-10.5; AH15 -2.5,-10.5; AH16 -1.5,-10.5; AH17 -0.5,-10.5; AH18 0.5,-10.5; AH19 1.5,-10.5; AH20 2.5,-10.5; AH21 3.5,-10.5; AH22 4.5,-10.5; AH23 5.5,-10.5; AH24 6.5,-10.5; AH25 7.5,-10.5; AH26 8.5,-10.5; AH27 9.5,-10.5; AH28 10.5,-10.5; AH29 11.5,-10.5; AH30 12.5,-10.5; AH31 13.5,-10.5; AH32 14.5,-10.5; AH33 15.5,-10.5; AH34 16.5,-10.5; AJ1 -16.5,-11.5; AJ2 -15.5,-11.5; AJ3 -14.5,-11.5; AJ4 -13.5,-11.5; AJ5 -12.5,-11.5; AJ6 -11.5,-11.5; AJ7 -10.5,-11.5; AJ8 -9.5,-11.5; AJ9 -8.5,-11.5; AJ10 -7.5,-11.5; AJ11 -6.5,-11.5; AJ12 -5.5,-11.5; AJ13 -4.5,-11.5; AJ14 -3.5,-11.5; AJ15 -2.5,-11.5; AJ16 -1.5,-11.5; AJ17 -0.5,-11.5; AJ18 0.5,-11.5; AJ19 1.5,-11.5; AJ20 2.5,-11.5; AJ21 3.5,-11.5; AJ22 4.5,-11.5; AJ23 5.5,-11.5; AJ24 6.5,-11.5; AJ25 7.5,-11.5; AJ26 8.5,-11.5; AJ27 9.5,-11.5; AJ28 10.5,-11.5; AJ29 11.5,-11.5; AJ30 12.5,-11.5; AJ31 13.5,-11.5; AJ32 14.5,-11.5; AJ33 15.5,-11.5; AJ34 16.5,-11.5; AK1 -16.5,-12.5; AK2 -15.5,-12.5; AK3 -14.5,-12.5; AK4 -13.5,-12.5; AK5 -12.5,-12.5; AK6 -11.5,-12.5; AK7 -10.5,-12.5; AK8 -9.5,-12.5; AK9 -8.5,-12.5; AK10 -7.5,-12.5; AK11 -6.5,-12.5; AK12 -5.5,-12.5; AK13 -4.5,-12.5; AK14 -3.5,-12.5; AK15 -2.5,-12.5; AK16 -1.5,-12.5; AK17 -0.5,-12.5; AK18 0.5,-12.5; AK19 1.5,-12.5; AK20 2.5,-12.5; AK21 3.5,-12.5; AK22 4.5,-12.5; AK23 5.5,-12.5; AK24 6.5,-12.5; AK25 7.5,-12.5; AK26 8.5,-12.5; AK27 9.5,-12.5; AK28 10.5,-12.5; AK29 11.5,-12.5; AK30 12.5,-12.5; AK31 13.5,-12.5; AK32 14.5,-12.5; AK33 15.5,-12.5; AK34 16.5,-12.5; AL1 -16.5,-13.5; AL2 -15.5,-13.5; AL3 -14.5,-13.5; AL4 -13.5,-13.5; AL5 -12.5,-13.5; AL6 -11.5,-13.5; AL7 -10.5,-13.5; AL8 -9.5,-13.5; AL9 -8.5,-13.5; AL10 -7.5,-13.5; AL11 -6.5,-13.5; AL12 -5.5,-13.5; AL13 -4.5,-13.5; AL14 -3.5,-13.5; AL15 -2.5,-13.5; AL16 -1.5,-13.5; AL17 -0.5,-13.5; AL18 0.5,-13.5; AL19 1.5,-13.5; AL20 2.5,-13.5; AL21 3.5,-13.5; AL22 4.5,-13.5; AL23 5.5,-13.5; AL24 6.5,-13.5; AL25 7.5,-13.5; AL26 8.5,-13.5; AL27 9.5,-13.5; AL28 10.5,-13.5; AL29 11.5,-13.5; AL30 12.5,-13.5; AL31 13.5,-13.5; AL32 14.5,-13.5; AL33 15.5,-13.5; AL34 16.5,-13.5; AM1 -16.5,-14.5; AM2 -15.5,-14.5; AM3 -14.5,-14.5; AM4 -13.5,-14.5; AM5 -12.5,-14.5; AM6 -11.5,-14.5; AM7 -10.5,-14.5; AM8 -9.5,-14.5; AM9 -8.5,-14.5; AM10 -7.5,-14.5; AM11 -6.5,-14.5; AM12 -5.5,-14.5; AM13 -4.5,-14.5; AM14 -3.5,-14.5; AM15 -2.5,-14.5; AM16 -1.5,-14.5; AM17 -0.5,-14.5; AM18 0.5,-14.5; AM19 1.5,-14.5; AM20 2.5,-14.5; AM21 3.5,-14.5; AM22 4.5,-14.5; AM23 5.5,-14.5; AM24 6.5,-14.5; AM25 7.5,-14.5; AM26 8.5,-14.5; AM27 9.5,-14.5; AM28 10.5,-14.5; AM29 11.5,-14.5; AM30 12.5,-14.5; AM31 13.5,-14.5; AM32 14.5,-14.5; AM33 15.5,-14.5; AM34 16.5,-14.5; AN1 -16.5,-15.5; AN2 -15.5,-15.5; AN3 -14.5,-15.5; AN4 -13.5,-15.5; AN5 -12.5,-15.5; AN6 -11.5,-15.5; AN7 -10.5,-15.5; AN8 -9.5,-15.5; AN9 -8.5,-15.5; AN10 -7.5,-15.5; AN11 -6.5,-15.5; AN12 -5.5,-15.5; AN13 -4.5,-15.5; AN14 -3.5,-15.5; AN15 -2.5,-15.5; AN16 -1.5,-15.5; AN17 -0.5,-15.5; AN18 0.5,-15.5; AN19 1.5,-15.5; AN20 2.5,-15.5; AN21 3.5,-15.5; AN22 4.5,-15.5; AN23 5.5,-15.5; AN24 6.5,-15.5; AN25 7.5,-15.5; AN26 8.5,-15.5; AN27 9.5,-15.5; AN28 10.5,-15.5; AN29 11.5,-15.5; AN30 12.5,-15.5; AN31 13.5,-15.5; AN32 14.5,-15.5; AN33 15.5,-15.5; AN34 16.5,-15.5; AP2 -15.5,-16.5; AP3 -14.5,-16.5; AP4 -13.5,-16.5; AP5 -12.5,-16.5; AP6 -11.5,-16.5; AP7 -10.5,-16.5; AP8 -9.5,-16.5; AP9 -8.5,-16.5; AP10 -7.5,-16.5; AP11 -6.5,-16.5; AP12 -5.5,-16.5; AP13 -4.5,-16.5; AP14 -3.5,-16.5; AP15 -2.5,-16.5; AP16 -1.5,-16.5; AP17 -0.5,-16.5; AP18 0.5,-16.5; AP19 1.5,-16.5; AP20 2.5,-16.5; AP21 3.5,-16.5; AP22 4.5,-16.5; AP23 5.5,-16.5; AP24 6.5,-16.5; AP25 7.5,-16.5; AP26 8.5,-16.5; AP27 9.5,-16.5; AP28 10.5,-16.5; AP29 11.5,-16.5; AP30 12.5,-16.5; AP31 13.5,-16.5; AP32 14.5,-16.5; AP33 15.5,-16.5; B1 -16.5,15.5; B2 -15.5,15.5; B3 -14.5,15.5; B4 -13.5,15.5; B5 -12.5,15.5; B6 -11.5,15.5; B7 -10.5,15.5; B8 -9.5,15.5; B9 -8.5,15.5; B10 -7.5,15.5; B11 -6.5,15.5; B12 -5.5,15.5; B13 -4.5,15.5; B14 -3.5,15.5; B15 -2.5,15.5; B16 -1.5,15.5; B17 -0.5,15.5; B18 0.5,15.5; B19 1.5,15.5; B20 2.5,15.5; B21 3.5,15.5; B22 4.5,15.5; B23 5.5,15.5; B24 6.5,15.5; B25 7.5,15.5; B26 8.5,15.5; B27 9.5,15.5; B28 10.5,15.5; B29 11.5,15.5; B30 12.5,15.5; B31 13.5,15.5; B32 14.5,15.5; B33 15.5,15.5; B34 16.5,15.5; C1 -16.5,14.5; C2 -15.5,14.5; C3 -14.5,14.5; C4 -13.5,14.5; C5 -12.5,14.5; C6 -11.5,14.5; C7 -10.5,14.5; C8 -9.5,14.5; C9 -8.5,14.5; C10 -7.5,14.5; C11 -6.5,14.5; C12 -5.5,14.5; C13 -4.5,14.5; C14 -3.5,14.5; C15 -2.5,14.5; C16 -1.5,14.5; C17 -0.5,14.5; C18 0.5,14.5; C19 1.5,14.5; C20 2.5,14.5; C21 3.5,14.5; C22 4.5,14.5; C23 5.5,14.5; C24 6.5,14.5; C25 7.5,14.5; C26 8.5,14.5; C27 9.5,14.5; C28 10.5,14.5; C29 11.5,14.5; C30 12.5,14.5; C31 13.5,14.5; C32 14.5,14.5; C33 15.5,14.5; C34 16.5,14.5; D1 -16.5,13.5; D2 -15.5,13.5; D3 -14.5,13.5; D4 -13.5,13.5; D5 -12.5,13.5; D6 -11.5,13.5; D7 -10.5,13.5; D8 -9.5,13.5; D9 -8.5,13.5; D10 -7.5,13.5; D11 -6.5,13.5; D12 -5.5,13.5; D13 -4.5,13.5; D14 -3.5,13.5; D15 -2.5,13.5; D16 -1.5,13.5; D17 -0.5,13.5; D18 0.5,13.5; D19 1.5,13.5; D20 2.5,13.5; D21 3.5,13.5; D22 4.5,13.5; D23 5.5,13.5; D24 6.5,13.5; D25 7.5,13.5; D26 8.5,13.5; D27 9.5,13.5; D28 10.5,13.5; D29 11.5,13.5; D30 12.5,13.5; D31 13.5,13.5; D32 14.5,13.5; D33 15.5,13.5; D34 16.5,13.5; E1 -16.5,12.5; E2 -15.5,12.5; E3 -14.5,12.5; E4 -13.5,12.5; E5 -12.5,12.5; E6 -11.5,12.5; E7 -10.5,12.5; E8 -9.5,12.5; E9 -8.5,12.5; E10 -7.5,12.5; E11 -6.5,12.5; E12 -5.5,12.5; E13 -4.5,12.5; E14 -3.5,12.5; E15 -2.5,12.5; E16 -1.5,12.5; E17 -0.5,12.5; E18 0.5,12.5; E19 1.5,12.5; E20 2.5,12.5; E21 3.5,12.5; E22 4.5,12.5; E23 5.5,12.5; E24 6.5,12.5; E25 7.5,12.5; E26 8.5,12.5; E27 9.5,12.5; E28 10.5,12.5; E29 11.5,12.5; E30 12.5,12.5; E31 13.5,12.5; E32 14.5,12.5; E33 15.5,12.5; E34 16.5,12.5; F1 -16.5,11.5; F2 -15.5,11.5; F3 -14.5,11.5; F4 -13.5,11.5; F5 -12.5,11.5; F6 -11.5,11.5; F7 -10.5,11.5; F8 -9.5,11.5; F9 -8.5,11.5; F10 -7.5,11.5; F11 -6.5,11.5; F12 -5.5,11.5; F13 -4.5,11.5; F14 -3.5,11.5; F15 -2.5,11.5; F16 -1.5,11.5; F17 -0.5,11.5; F18 0.5,11.5; F19 1.5,11.5; F20 2.5,11.5; F21 3.5,11.5; F22 4.5,11.5; F23 5.5,11.5; F24 6.5,11.5; F25 7.5,11.5; F26 8.5,11.5; F27 9.5,11.5; F28 10.5,11.5; F29 11.5,11.5; F30 12.5,11.5; F31 13.5,11.5; F32 14.5,11.5; F33 15.5,11.5; F34 16.5,11.5; G1 -16.5,10.5; G2 -15.5,10.5; G3 -14.5,10.5; G4 -13.5,10.5; G5 -12.5,10.5; G6 -11.5,10.5; G7 -10.5,10.5; G8 -9.5,10.5; G9 -8.5,10.5; G10 -7.5,10.5; G11 -6.5,10.5; G12 -5.5,10.5; G13 -4.5,10.5; G14 -3.5,10.5; G15 -2.5,10.5; G16 -1.5,10.5; G17 -0.5,10.5; G18 0.5,10.5; G19 1.5,10.5; G20 2.5,10.5; G21 3.5,10.5; G22 4.5,10.5; G23 5.5,10.5; G24 6.5,10.5; G25 7.5,10.5; G26 8.5,10.5; G27 9.5,10.5; G28 10.5,10.5; G29 11.5,10.5; G30 12.5,10.5; G31 13.5,10.5; G32 14.5,10.5; G33 15.5,10.5; G34 16.5,10.5; H1 -16.5,9.5; H2 -15.5,9.5; H3 -14.5,9.5; H4 -13.5,9.5; H5 -12.5,9.5; H6 -11.5,9.5; H7 -10.5,9.5; H8 -9.5,9.5; H9 -8.5,9.5; H10 -7.5,9.5; H11 -6.5,9.5; H12 -5.5,9.5; H13 -4.5,9.5; H14 -3.5,9.5; H15 -2.5,9.5; H16 -1.5,9.5; H17 -0.5,9.5; H18 0.5,9.5; H19 1.5,9.5; H20 2.5,9.5; H21 3.5,9.5; H22 4.5,9.5; H23 5.5,9.5; H24 6.5,9.5; H25 7.5,9.5; H26 8.5,9.5; H27 9.5,9.5; H28 10.5,9.5; H29 11.5,9.5; H30 12.5,9.5; H31 13.5,9.5; H32 14.5,9.5; H33 15.5,9.5; H34 16.5,9.5; J1 -16.5,8.5; J2 -15.5,8.5; J3 -14.5,8.5; J4 -13.5,8.5; J5 -12.5,8.5; J6 -11.5,8.5; J7 -10.5,8.5; J8 -9.5,8.5; J9 -8.5,8.5; J10 -7.5,8.5; J11 -6.5,8.5; J12 -5.5,8.5; J13 -4.5,8.5; J14 -3.5,8.5; J15 -2.5,8.5; J16 -1.5,8.5; J17 -0.5,8.5; J18 0.5,8.5; J19 1.5,8.5; J20 2.5,8.5; J21 3.5,8.5; J22 4.5,8.5; J23 5.5,8.5; J24 6.5,8.5; J25 7.5,8.5; J26 8.5,8.5; J27 9.5,8.5; J28 10.5,8.5; J29 11.5,8.5; J30 12.5,8.5; J31 13.5,8.5; J32 14.5,8.5; J33 15.5,8.5; J34 16.5,8.5; K1 -16.5,7.5; K2 -15.5,7.5; K3 -14.5,7.5; K4 -13.5,7.5; K5 -12.5,7.5; K6 -11.5,7.5; K7 -10.5,7.5; K8 -9.5,7.5; K9 -8.5,7.5; K10 -7.5,7.5; K11 -6.5,7.5; K12 -5.5,7.5; K13 -4.5,7.5; K14 -3.5,7.5; K15 -2.5,7.5; K16 -1.5,7.5; K17 -0.5,7.5; K18 0.5,7.5; K19 1.5,7.5; K20 2.5,7.5; K21 3.5,7.5; K22 4.5,7.5; K23 5.5,7.5; K24 6.5,7.5; K25 7.5,7.5; K26 8.5,7.5; K27 9.5,7.5; K28 10.5,7.5; K29 11.5,7.5; K30 12.5,7.5; K31 13.5,7.5; K32 14.5,7.5; K33 15.5,7.5; K34 16.5,7.5; L1 -16.5,6.5; L2 -15.5,6.5; L3 -14.5,6.5; L4 -13.5,6.5; L5 -12.5,6.5; L6 -11.5,6.5; L7 -10.5,6.5; L8 -9.5,6.5; L9 -8.5,6.5; L10 -7.5,6.5; L11 -6.5,6.5; L12 -5.5,6.5; L13 -4.5,6.5; L14 -3.5,6.5; L15 -2.5,6.5; L16 -1.5,6.5; L17 -0.5,6.5; L18 0.5,6.5; L19 1.5,6.5; L20 2.5,6.5; L21 3.5,6.5; L22 4.5,6.5; L23 5.5,6.5; L24 6.5,6.5; L25 7.5,6.5; L26 8.5,6.5; L27 9.5,6.5; L28 10.5,6.5; L29 11.5,6.5; L30 12.5,6.5; L31 13.5,6.5; L32 14.5,6.5; L33 15.5,6.5; L34 16.5,6.5; M1 -16.5,5.5; M2 -15.5,5.5; M3 -14.5,5.5; M4 -13.5,5.5; M5 -12.5,5.5; M6 -11.5,5.5; M7 -10.5,5.5; M8 -9.5,5.5; M9 -8.5,5.5; M10 -7.5,5.5; M11 -6.5,5.5; M12 -5.5,5.5; M13 -4.5,5.5; M14 -3.5,5.5; M15 -2.5,5.5; M16 -1.5,5.5; M17 -0.5,5.5; M18 0.5,5.5; M19 1.5,5.5; M20 2.5,5.5; M21 3.5,5.5; M22 4.5,5.5; M23 5.5,5.5; M24 6.5,5.5; M25 7.5,5.5; M26 8.5,5.5; M27 9.5,5.5; M28 10.5,5.5; M29 11.5,5.5; M30 12.5,5.5; M31 13.5,5.5; M32 14.5,5.5; M33 15.5,5.5; M34 16.5,5.5; N1 -16.5,4.5; N2 -15.5,4.5; N3 -14.5,4.5; N4 -13.5,4.5; N5 -12.5,4.5; N6 -11.5,4.5; N7 -10.5,4.5; N8 -9.5,4.5; N9 -8.5,4.5; N10 -7.5,4.5; N11 -6.5,4.5; N12 -5.5,4.5; N13 -4.5,4.5; N14 -3.5,4.5; N15 -2.5,4.5; N16 -1.5,4.5; N17 -0.5,4.5; N18 0.5,4.5; N19 1.5,4.5; N20 2.5,4.5; N21 3.5,4.5; N22 4.5,4.5; N23 5.5,4.5; N24 6.5,4.5; N25 7.5,4.5; N26 8.5,4.5; N27 9.5,4.5; N28 10.5,4.5; N29 11.5,4.5; N30 12.5,4.5; N31 13.5,4.5; N32 14.5,4.5; N33 15.5,4.5; N34 16.5,4.5; P1 -16.5,3.5; P2 -15.5,3.5; P3 -14.5,3.5; P4 -13.5,3.5; P5 -12.5,3.5; P6 -11.5,3.5; P7 -10.5,3.5; P8 -9.5,3.5; P9 -8.5,3.5; P10 -7.5,3.5; P11 -6.5,3.5; P12 -5.5,3.5; P13 -4.5,3.5; P14 -3.5,3.5; P15 -2.5,3.5; P16 -1.5,3.5; P17 -0.5,3.5; P18 0.5,3.5; P19 1.5,3.5; P20 2.5,3.5; P21 3.5,3.5; P22 4.5,3.5; P23 5.5,3.5; P24 6.5,3.5; P25 7.5,3.5; P26 8.5,3.5; P27 9.5,3.5; P28 10.5,3.5; P29 11.5,3.5; P30 12.5,3.5; P31 13.5,3.5; P32 14.5,3.5; P33 15.5,3.5; P34 16.5,3.5; R1 -16.5,2.5; R2 -15.5,2.5; R3 -14.5,2.5; R4 -13.5,2.5; R5 -12.5,2.5; R6 -11.5,2.5; R7 -10.5,2.5; R8 -9.5,2.5; R9 -8.5,2.5; R10 -7.5,2.5; R11 -6.5,2.5; R12 -5.5,2.5; R13 -4.5,2.5; R14 -3.5,2.5; R15 -2.5,2.5; R16 -1.5,2.5; R17 -0.5,2.5; R18 0.5,2.5; R19 1.5,2.5; R20 2.5,2.5; R21 3.5,2.5; R22 4.5,2.5; R23 5.5,2.5; R24 6.5,2.5; R25 7.5,2.5; R26 8.5,2.5; R27 9.5,2.5; R28 10.5,2.5; R29 11.5,2.5; R30 12.5,2.5; R31 13.5,2.5; R32 14.5,2.5; R33 15.5,2.5; R34 16.5,2.5; T1 -16.5,1.5; T2 -15.5,1.5; T3 -14.5,1.5; T4 -13.5,1.5; T5 -12.5,1.5; T6 -11.5,1.5; T7 -10.5,1.5; T8 -9.5,1.5; T9 -8.5,1.5; T10 -7.5,1.5; T11 -6.5,1.5; T12 -5.5,1.5; T13 -4.5,1.5; T14 -3.5,1.5; T15 -2.5,1.5; T16 -1.5,1.5; T17 -0.5,1.5; T18 0.5,1.5; T19 1.5,1.5; T20 2.5,1.5; T21 3.5,1.5; T22 4.5,1.5; T23 5.5,1.5; T24 6.5,1.5; T25 7.5,1.5; T26 8.5,1.5; T27 9.5,1.5; T28 10.5,1.5; T29 11.5,1.5; T30 12.5,1.5; T31 13.5,1.5; T32 14.5,1.5; T33 15.5,1.5; T34 16.5,1.5; U1 -16.5,0.5; U2 -15.5,0.5; U3 -14.5,0.5; U4 -13.5,0.5; U5 -12.5,0.5; U6 -11.5,0.5; U7 -10.5,0.5; U8 -9.5,0.5; U9 -8.5,0.5; U10 -7.5,0.5; U11 -6.5,0.5; U12 -5.5,0.5; U13 -4.5,0.5; U14 -3.5,0.5; U15 -2.5,0.5; U16 -1.5,0.5; U17 -0.5,0.5; U18 0.5,0.5; U19 1.5,0.5; U20 2.5,0.5; U21 3.5,0.5; U22 4.5,0.5; U23 5.5,0.5; U24 6.5,0.5; U25 7.5,0.5; U26 8.5,0.5; U27 9.5,0.5; U28 10.5,0.5; U29 11.5,0.5; U30 12.5,0.5; U31 13.5,0.5; U32 14.5,0.5; U33 15.5,0.5; U34 16.5,0.5; V1 -16.5,-0.5; V2 -15.5,-0.5; V3 -14.5,-0.5; V4 -13.5,-0.5; V5 -12.5,-0.5; V6 -11.5,-0.5; V7 -10.5,-0.5; V8 -9.5,-0.5; V9 -8.5,-0.5; V10 -7.5,-0.5; V11 -6.5,-0.5; V12 -5.5,-0.5; V13 -4.5,-0.5; V14 -3.5,-0.5; V15 -2.5,-0.5; V16 -1.5,-0.5; V17 -0.5,-0.5; V18 0.5,-0.5; V19 1.5,-0.5; V20 2.5,-0.5; V21 3.5,-0.5; V22 4.5,-0.5; V23 5.5,-0.5; V24 6.5,-0.5; V25 7.5,-0.5; V26 8.5,-0.5; V27 9.5,-0.5; V28 10.5,-0.5; V29 11.5,-0.5; V30 12.5,-0.5; V31 13.5,-0.5; V32 14.5,-0.5; V33 15.5,-0.5; V34 16.5,-0.5; W1 -16.5,-1.5; W2 -15.5,-1.5; W3 -14.5,-1.5; W4 -13.5,-1.5; W5 -12.5,-1.5; W6 -11.5,-1.5; W7 -10.5,-1.5; W8 -9.5,-1.5; W9 -8.5,-1.5; W10 -7.5,-1.5; W11 -6.5,-1.5; W12 -5.5,-1.5; W13 -4.5,-1.5; W14 -3.5,-1.5; W15 -2.5,-1.5; W16 -1.5,-1.5; W17 -0.5,-1.5; W18 0.5,-1.5; W19 1.5,-1.5; W20 2.5,-1.5; W21 3.5,-1.5; W22 4.5,-1.5; W23 5.5,-1.5; W24 6.5,-1.5; W25 7.5,-1.5; W26 8.5,-1.5; W27 9.5,-1.5; W28 10.5,-1.5; W29 11.5,-1.5; W30 12.5,-1.5; W31 13.5,-1.5; W32 14.5,-1.5; W33 15.5,-1.5; W34 16.5,-1.5; Y1 -16.5,-2.5; Y2 -15.5,-2.5; Y3 -14.5,-2.5; Y4 -13.5,-2.5; Y5 -12.5,-2.5; Y6 -11.5,-2.5; Y7 -10.5,-2.5; Y8 -9.5,-2.5; Y9 -8.5,-2.5; Y10 -7.5,-2.5; Y11 -6.5,-2.5; Y12 -5.5,-2.5; Y13 -4.5,-2.5; Y14 -3.5,-2.5; Y15 -2.5,-2.5; Y16 -1.5,-2.5; Y17 -0.5,-2.5; Y18 0.5,-2.5; Y19 1.5,-2.5; Y20 2.5,-2.5; Y21 3.5,-2.5; Y22 4.5,-2.5; Y23 5.5,-2.5; Y24 6.5,-2.5; Y25 7.5,-2.5; Y26 8.5,-2.5; Y27 9.5,-2.5; Y28 10.5,-2.5; Y29 11.5,-2.5; Y30 12.5,-2.5; Y31 13.5,-2.5; Y32 14.5,-2.5; Y33 15.5,-2.5; Y34 16.5,-2.5